# Altium footprint library QFN_Rect_50P_Side_V.PcbLib: 2 footprints
Each footprint in its own frame and in the unit in brackets; x right, y up, seen from the top. Pads: shape width x height; smd on the part's side, far side on the other; paste and mask are expansions set on the pad; w line width, h text height; cw(c..) or ccw(c..) is an arc to the next point about the centre after c.
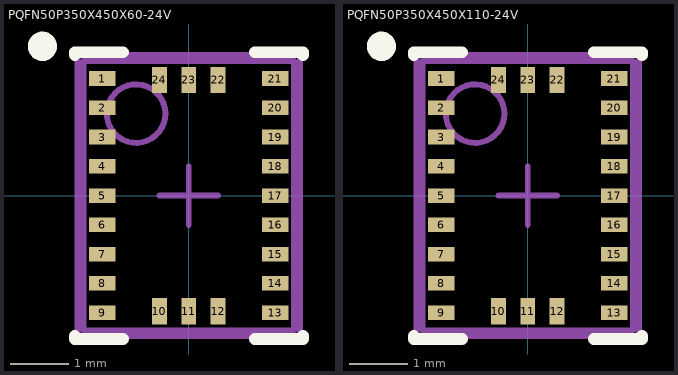
[diagram p0: the footprints below, top view; thin cyan lines are the x and y axes]

## PQFN50P350X450X60-24V [mm] "PQFN, 24-Leads (9x3 pads), Body 3.5x4.5mm, Pitch 0.5mm, NSC Recommended"
height 0.6
pads (24):
  rect 0.45x0.25 smd paste-0.125 mask+0.051: 1(-1.475,2) 2(-1.475,1.5) 3(-1.475,1) 4(-1.475,0.5) 5(-1.475,0) 6(-1.475,-0.5) 7(-1.475,-1) 8(-1.475,-1.5) 9(-1.475,-2) 13(1.475,-2) 14(1.475,-1.5) 15(1.475,-1) 16(1.475,-0.5) 17(1.475,0) 18(1.475,0.5) 19(1.475,1) 20(1.475,1.5) 21(1.475,2)
  rect 0.25x0.45 smd paste-0.125 mask+0.051: 10(-0.5,-1.975) 11(0,-1.975) 12(0.5,-1.975) 22(0.5,1.975) 23(0,1.975) 24(-0.5,1.975)
Top Overlay:
  circle w0.25: c-2.5,2.55 r0.125
  lines w0.2: -1.95,-2.4 -1.95,-2.45 -1.125,-2.45 ; -1.95,2.4 -1.95,2.45 -1.125,2.45 ; 1.125,-2.45 1.95,-2.45 1.95,-2.4 ; 1.125,2.45 1.95,2.45 1.95,2.4
Top Paste:
  region: -0.625,2.3 -0.625,1.85 -0.375,1.85 -0.375,2.3
  region: -0.125,2.3 -0.125,1.85 0.125,1.85 0.125,2.3
  region: 0.375,2.3 0.375,1.85 0.625,1.85 0.625,2.3
  region: 0.625,-2.3 0.625,-1.85 0.375,-1.85 0.375,-2.3
  region: 0.125,-2.3 0.125,-1.85 -0.125,-1.85 -0.125,-2.3
  region: -0.375,-2.3 -0.375,-1.85 -0.625,-1.85 -0.625,-2.3
  region: 1.8,-1.875 1.35,-1.875 1.35,-2.125 1.8,-2.125
  region: 1.8,-1.375 1.35,-1.375 1.35,-1.625 1.8,-1.625
  region: 1.8,-0.875 1.35,-0.875 1.35,-1.125 1.8,-1.125
  region: 1.8,-0.375 1.35,-0.375 1.35,-0.625 1.8,-0.625
  region: 1.8,0.125 1.35,0.125 1.35,-0.125 1.8,-0.125
  region: 1.8,0.625 1.35,0.625 1.35,0.375 1.8,0.375
  region: 1.8,1.125 1.35,1.125 1.35,0.875 1.8,0.875
  region: 1.8,1.625 1.35,1.625 1.35,1.375 1.8,1.375
  region: 1.8,2.125 1.35,2.125 1.35,1.875 1.8,1.875
  rectangle: -1.8,1.875 -1.35,2.125
  rectangle: -1.8,1.375 -1.35,1.625
  rectangle: -1.8,0.875 -1.35,1.125
  rectangle: -1.8,-1.125 -1.35,-0.875
  rectangle: -1.8,-1.625 -1.35,-1.375
  rectangle: -1.8,-2.125 -1.35,-1.875
  rectangle: -1.8,0.375 -1.35,0.625
  rectangle: -1.8,-0.125 -1.35,0.125
  rectangle: -1.8,-0.625 -1.35,-0.375
Mechanical 13:
  circle w0.1: c-0.9,1.4 r0.5
  lines w0.1: -1.8,-2.3 1.8,-2.3 1.8,2.3 -1.8,2.3 -1.8,-2.3
Mechanical 15:
  lines w0.1: -0.5,0 0.5,0 ; 0,-0.5 0,0.5 ; -1.9,-2.4 1.9,-2.4 1.9,2.4 -1.9,2.4 -1.9,-2.4
3D body: height 0.6, standoff 0, extent -1.8,-2.3 1.8,2.3

## PQFN50P350X450X110-24V [mm] "PQFN, 24-Leads (9x3 pads), Body 3.5x4.5mm, Pitch 0.5mm, NSC Recommended"
height 1.1
pads (24):
  rect 0.45x0.25 smd paste-0.125 mask+0.051: 1(-1.475,2) 2(-1.475,1.5) 3(-1.475,1) 4(-1.475,0.5) 5(-1.475,0) 6(-1.475,-0.5) 7(-1.475,-1) 8(-1.475,-1.5) 9(-1.475,-2) 13(1.475,-2) 14(1.475,-1.5) 15(1.475,-1) 16(1.475,-0.5) 17(1.475,0) 18(1.475,0.5) 19(1.475,1) 20(1.475,1.5) 21(1.475,2)
  rect 0.25x0.45 smd paste-0.125 mask+0.051: 10(-0.5,-1.975) 11(0,-1.975) 12(0.5,-1.975) 22(0.5,1.975) 23(0,1.975) 24(-0.5,1.975)
Top Overlay:
  circle w0.25: c-2.5,2.55 r0.125
  lines w0.2: -1.95,-2.4 -1.95,-2.45 -1.125,-2.45 ; -1.95,2.4 -1.95,2.45 -1.125,2.45 ; 1.125,-2.45 1.95,-2.45 1.95,-2.4 ; 1.125,2.45 1.95,2.45 1.95,2.4
Top Paste:
  region: -1.8,-1.875 -1.8,-2.125 -1.35,-2.125 -1.35,-1.875
  region: 0.375,2.3 0.375,1.85 0.625,1.85 0.625,2.3
  region: -0.125,2.3 -0.125,1.85 0.125,1.85 0.125,2.3
  region: -0.625,2.3 -0.625,1.85 -0.375,1.85 -0.375,2.3
  region: -0.375,-2.3 -0.375,-1.85 -0.625,-1.85 -0.625,-2.3
  region: 0.125,-2.3 0.125,-1.85 -0.125,-1.85 -0.125,-2.3
  region: 0.625,-2.3 0.625,-1.85 0.375,-1.85 0.375,-2.3
  region: 1.35,2.125 1.35,1.875 1.8,1.875 1.8,2.125
  region: 1.35,1.625 1.35,1.375 1.8,1.375 1.8,1.625
  region: 1.35,1.125 1.35,0.875 1.8,0.875 1.8,1.125
  region: 1.35,0.625 1.35,0.375 1.8,0.375 1.8,0.625
  region: 1.35,0.125 1.35,-0.125 1.8,-0.125 1.8,0.125
  region: 1.35,-0.375 1.35,-0.625 1.8,-0.625 1.8,-0.375
  region: 1.35,-0.875 1.35,-1.125 1.8,-1.125 1.8,-0.875
  region: 1.35,-1.375 1.35,-1.625 1.8,-1.625 1.8,-1.375
  region: 1.35,-1.875 1.35,-2.125 1.8,-2.125 1.8,-1.875
  region: -1.8,-1.375 -1.8,-1.625 -1.35,-1.625 -1.35,-1.375
  region: -1.8,-0.875 -1.8,-1.125 -1.35,-1.125 -1.35,-0.875
  region: -1.8,-0.375 -1.8,-0.625 -1.35,-0.625 -1.35,-0.375
  region: -1.8,0.125 -1.8,-0.125 -1.35,-0.125 -1.35,0.125
  region: -1.8,0.625 -1.8,0.375 -1.35,0.375 -1.35,0.625
  region: -1.8,1.125 -1.8,0.875 -1.35,0.875 -1.35,1.125
  region: -1.8,1.625 -1.8,1.375 -1.35,1.375 -1.35,1.625
  region: -1.8,2.125 -1.8,1.875 -1.35,1.875 -1.35,2.125
Mechanical 13:
  circle w0.1: c-0.9,1.4 r0.5
  lines w0.1: -1.8,-2.3 1.8,-2.3 1.8,2.3 -1.8,2.3 -1.8,-2.3
Mechanical 15:
  lines w0.1: -0.5,0 0.5,0 ; 0,-0.5 0,0.5 ; -1.9,-2.4 1.9,-2.4 1.9,2.4 -1.9,2.4 -1.9,-2.4
3D body: height 1.1, standoff 0, extent -1.8,-2.3 1.8,2.3